# Altium schematic symbol library 1.0 - 常见芯片.SchLib: 189 symbols (part 3 of 3)
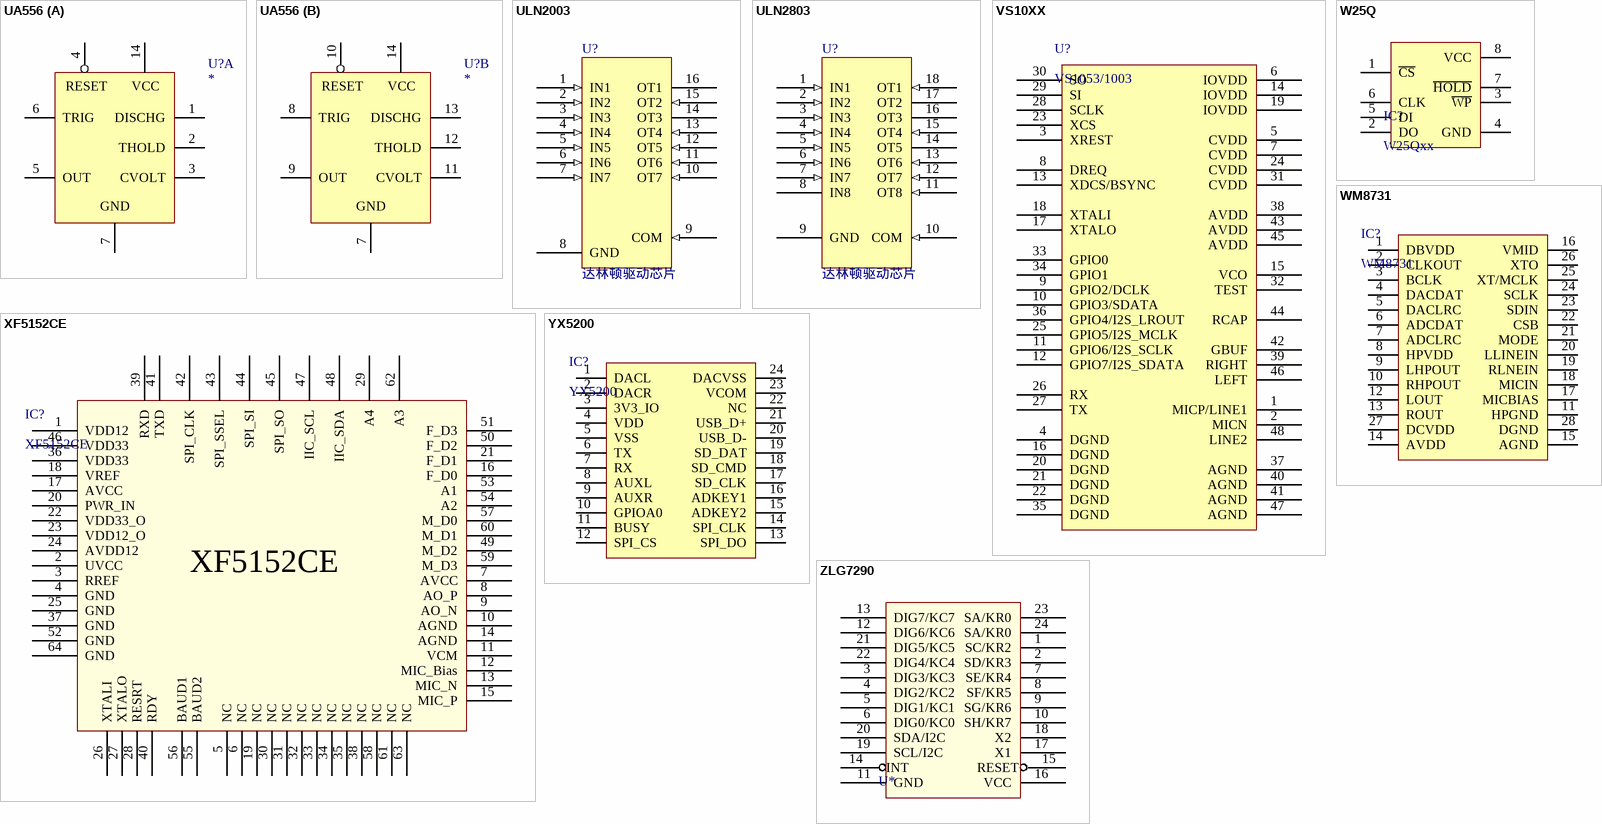
[diagram p16: symbols UA556 to ZLG7290]

## ZLG7290
designator U*, comment ZLG7920  (value not drawn)
按键8位数码管控制芯片; 1.库作者: 冰凌猫; 2.库版本: v2.0 (2021.03.30); 3.交流分享: Q群514746572,开源更新,欢迎一起交流学习PCB设计; 4.作者声明: 旨为整合最全库集,欢迎转载,禁止商用！-冰凌猫; 5.备注说明: 该库已二次整合过网上各热销库,基本最全,无需重复搜购安装
footprint ZLG_7290
pins: 1 SC/KR2, 2 SD/KR3, 3 DIG3/KC3, 4 DIG2/KC2, 5 DIG1/KC1, 6 DIG0/KC0, 7 SE/KR4, 8 SF/KR5, 9 SG/KR6, 10 SH/KR7, 11 GND (power), 12 DIG6/KC6, 13 DIG7/KC7, 14 INT, 15 RESET, 16 VCC, 17 X1, 18 X2, 19 SCL/I2C, 20 SDA/I2C, 21 DIG5/KC5, 22 DIG4/KC4, 23 SA/KR0, 24 SA/KR0